# EAGLE library part 7P-26.000MBP-T (library 7P-26.000MBP-T)
26 MHz TCXO CMOS Oscillator 3.3V Enable/Disable 10-SMD, No Lead Source: Datasheet <http://www.txccrystal.com/images/pdf/7p.pdf>
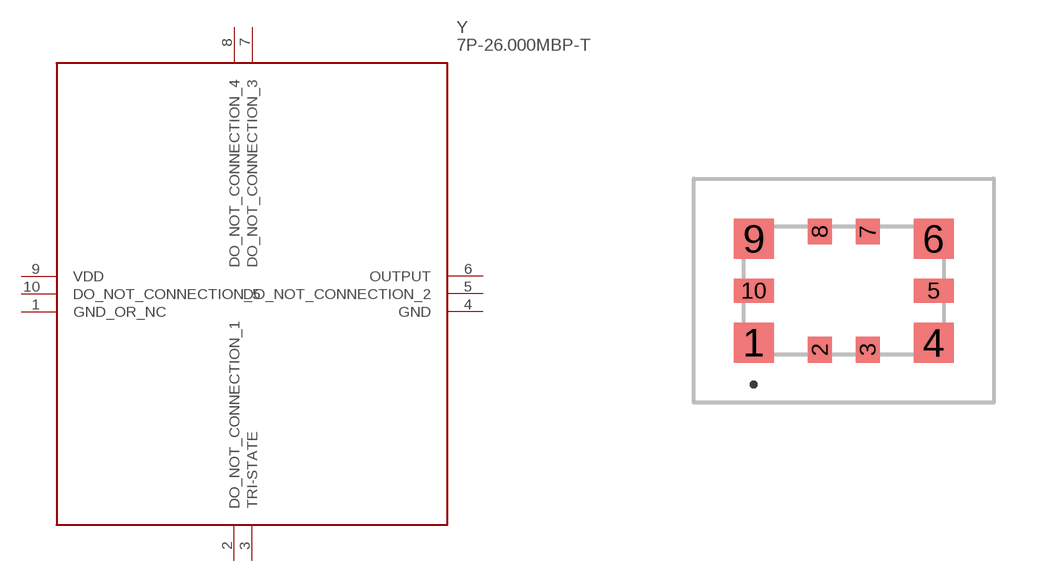
[diagram p0: symbol with the pads of 7P26000MBPT; footprint 7P26000MBPT]

Designator prefix Y

## 7P-26.000MBP-T (Description: 26 MHz TCXO CMOS Oscillator 3.3V Enable/Disable 10-SMD, No Lead; Height: 2.1mm; Manufacturer_Name: TXC CORPORATION; Manufacturer_Part_Number: 7P-26.000MBP-T; Mouser_Part_Number: 717-7P-26.000MBP-T; Mouser_Price-Stock: https://www.mouser.co.uk/ProductDetail/TXC-Corporation/7P-26.000MBP-T?qs=fvzbcJcjqJFBmm0fHbIzJw%3D%3D)  [7P26000MBPT]
1  GND_OR_NC
2  DO_NOT_CONNECTION_1
3  TRI‐STATE
4  GND
5  DO_NOT_CONNECTION_2
6  OUTPUT
7  DO_NOT_CONNECTION_3
8  DO_NOT_CONNECTION_4
9  VDD
10  DO_NOT_CONNECTION_5

## Footprint 7P26000MBPT (pad centres in mm)
7P-26.000MBP-T-1
smd 1 x 1: 1 -2.25,-1.3; 4 2.25,-1.3; 6 2.25,1.3; 9 -2.25,1.3
smd 0.6 x 0.65: 2 -0.6,-1.475; 3 0.6,-1.475; 7 0.6,1.475; 8 -0.6,1.475
smd 1 x 0.6: 5 2.25,0; 10 -2.25,0